# Altium integrated library NEC Microcontroller 4-Bit.IntLib: 43 symbols
Pins are listed as number, name and electrical type; pins without a type are passive.

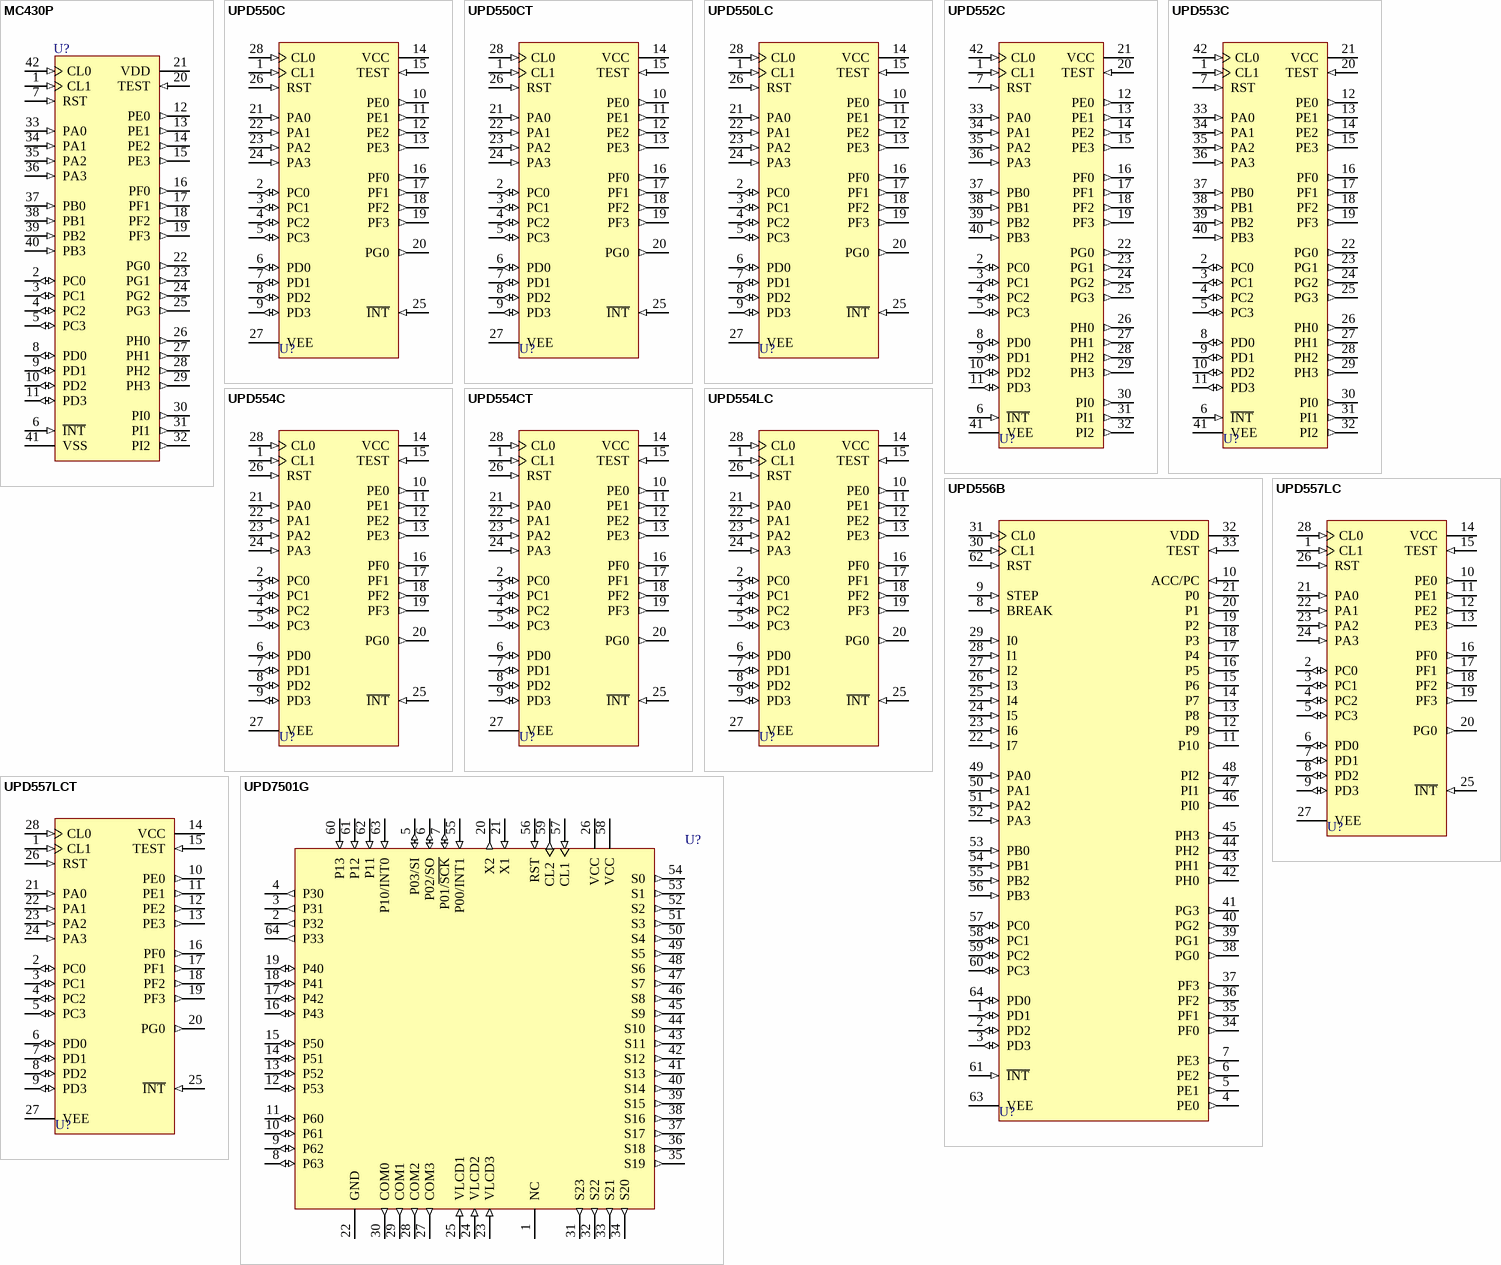
[diagram p0: symbols MC430P to UPD7501G]

## MC430P
designator U?
Hybrid UV EPROM 4-Bit Single-Chip Microcomputer; Note: Connect TEST pin to VCC.; Published: 8-Jun-2000; LatestRevisionDate: 17-Jul-2002; LatestRevisionNote: Re-released for DXP Platform.; DatasheetVersion: 1984; PackageVersion: 1984; PackageReference: CerDIP42; Publisher: Altium Limited; PackageDescription: DIP; 42 Rectangular Pins; Row Space 15.24 mm; Pitch 2.54 mm; ComponentLink1Description: Manufacturer Link; ComponentLink1URL: http://www.necel.com/
footprint CerDIP42 (DIP; 42 Rectangular Pins; Row Space 15.24 mm; Pitch 2.54 mm)
pins: 1 CL1 (in), 2 PC0 (io), 3 PC1 (io), 4 PC2 (io), 5 PC3 (io), 6 ~{INT} (in), 7 RST (in), 8 PD0 (io), 9 PD1 (io), 10 PD2 (io), 11 PD3 (io), 12 PE0 (out), 13 PE1 (out), 14 PE2 (out), 15 PE3 (out), 16 PF0 (out), 17 PF1 (out), 18 PF2 (out), 19 PF3 (out), 20 TEST (in), 21 VDD (power), 22 PG0 (out), 23 PG1 (out), 24 PG2 (out), 25 PG3 (out), 26 PH0 (out), 27 PH1 (out), 28 PH2 (out), 29 PH3 (out), 30 PI0 (out), 31 PI1 (out), 32 PI2 (out), 33 PA0 (in), 34 PA1 (in), 35 PA2 (in), 36 PA3 (in), 37 PB0 (in), 38 PB1 (in), 39 PB2 (in), 40 PB3 (in), 41 VSS (power), 42 CL0 (in)

## UPD550C
designator U?
4-Bit Single-Chip Microcomputer with Vacuum Fluorescent Display Drive Capability; Note: Connect TEST pin to VCC.; Published: 8-Jun-2000; LatestRevisionDate: 17-Jul-2002; LatestRevisionNote: Re-released for DXP Platform.; DatasheetVersion: 1984; PackageVersion: 1984; PackageReference: PDIP28D; Publisher: Altium Limited; PackageDescription: DIP; 28 Leads; Row Spacing 15.24 mm; Pitch 2.54 mm; ComponentLink1Description: Manufacturer Link; ComponentLink1URL: http://www.necel.com/
footprint PDIP28D (DIP; 28 Leads; Row Spacing 15.24 mm; Pitch 2.54 mm)
pins: 1 CL1 (in), 2 PC0 (io), 3 PC1 (io), 4 PC2 (io), 5 PC3 (io), 6 PD0 (io), 7 PD1 (io), 8 PD2 (io), 9 PD3 (io), 10 PE0 (out), 11 PE1 (out), 12 PE2 (out), 13 PE3 (out), 14 VCC (power), 15 TEST (in), 16 PF0 (out), 17 PF1 (out), 18 PF2 (out), 19 PF3 (out), 20 PG0 (out), 21 PA0 (in), 22 PA1 (in), 23 PA2 (in), 24 PA3 (in), 25 ~{INT} (in), 26 RST (in), 27 VEE (power), 28 CL0 (in)

## UPD550CT
designator U?
4-Bit Single-Chip Microcomputer with Vacuum Fluorescent Display Drive Capability; Note: Connect TEST pin to VCC.; Published: 8-Jun-2000; LatestRevisionDate: 17-Jul-2002; LatestRevisionNote: Re-released for DXP Platform.; DatasheetVersion: 1984; PackageVersion: 1984; PackageReference: PSDIP28; Publisher: Altium Limited; PackageDescription: DIP; 28 Leads; Row Spacing 15.24 mm; Pitch 1.778 mm; ComponentLink1Description: Manufacturer Link; ComponentLink1URL: http://www.necel.com/
footprint PSDIP28 (DIP; 28 Leads; Row Spacing 15.24 mm; Pitch 1.778 mm)
pins: 1 CL1 (in), 2 PC0 (io), 3 PC1 (io), 4 PC2 (io), 5 PC3 (io), 6 PD0 (io), 7 PD1 (io), 8 PD2 (io), 9 PD3 (io), 10 PE0 (out), 11 PE1 (out), 12 PE2 (out), 13 PE3 (out), 14 VCC (power), 15 TEST (in), 16 PF0 (out), 17 PF1 (out), 18 PF2 (out), 19 PF3 (out), 20 PG0 (out), 21 PA0 (in), 22 PA1 (in), 23 PA2 (in), 24 PA3 (in), 25 ~{INT} (in), 26 RST (in), 27 VEE (power), 28 CL0 (in)

## UPD550LC
designator U?
4-Bit Single-Chip Microcomputer with Vacuum Fluorescent Display Drive Capability; Note: Connect TEST pin to VCC.; Published: 8-Jun-2000; LatestRevisionDate: 17-Jul-2002; LatestRevisionNote: Re-released for DXP Platform.; DatasheetVersion: 1984; PackageVersion: 1984; PackageReference: PDIP28D; Publisher: Altium Limited; PackageDescription: DIP; 28 Leads; Row Spacing 15.24 mm; Pitch 2.54 mm; ComponentLink1Description: Manufacturer Link; ComponentLink1URL: http://www.necel.com/
footprint PDIP28D (DIP; 28 Leads; Row Spacing 15.24 mm; Pitch 2.54 mm)
pins: 1 CL1 (in), 2 PC0 (io), 3 PC1 (io), 4 PC2 (io), 5 PC3 (io), 6 PD0 (io), 7 PD1 (io), 8 PD2 (io), 9 PD3 (io), 10 PE0 (out), 11 PE1 (out), 12 PE2 (out), 13 PE3 (out), 14 VCC (power), 15 TEST (in), 16 PF0 (out), 17 PF1 (out), 18 PF2 (out), 19 PF3 (out), 20 PG0 (out), 21 PA0 (in), 22 PA1 (in), 23 PA2 (in), 24 PA3 (in), 25 ~{INT} (in), 26 RST (in), 27 VEE (power), 28 CL0 (in)

## UPD552C
designator U?
4-Bit Single-Chip Microcomputer with Vacuum Fluorescent Display Drive Capability; Note: Connect TEST pin to VCC.; Published: 8-Jun-2000; LatestRevisionDate: 17-Jul-2002; LatestRevisionNote: Re-released for DXP Platform.; DatasheetVersion: 1984; PackageVersion: 1984; PackageReference: PDIP42; Publisher: Altium Limited; PackageDescription: DIP; 42 Leads; Row Spacing 15.24 mm; Pitch 2.54 mm; ComponentLink1Description: Manufacturer Link; ComponentLink1URL: http://www.necel.com/
footprint PDIP42 (DIP; 42 Leads; Row Spacing 15.24 mm; Pitch 2.54 mm)
pins: 1 CL1 (in), 2 PC0 (io), 3 PC1 (io), 4 PC2 (io), 5 PC3 (io), 6 ~{INT} (in), 7 RST (in), 8 PD0 (io), 9 PD1 (io), 10 PD2 (io), 11 PD3 (io), 12 PE0 (out), 13 PE1 (out), 14 PE2 (out), 15 PE3 (out), 16 PF0 (out), 17 PF1 (out), 18 PF2 (out), 19 PF3 (out), 20 TEST (in), 21 VCC (power), 22 PG0 (out), 23 PG1 (out), 24 PG2 (out), 25 PG3 (out), 26 PH0 (out), 27 PH1 (out), 28 PH2 (out), 29 PH3 (out), 30 PI0 (out), 31 PI1 (out), 32 PI2 (out), 33 PA0 (in), 34 PA1 (in), 35 PA2 (in), 36 PA3 (in), 37 PB0 (in), 38 PB1 (in), 39 PB2 (in), 40 PB3 (in), 41 VEE (power), 42 CL0 (in)

## UPD553C
designator U?
4-Bit Single-Chip Microcomputer with Vacuum Fluorescent Display Drive Capability; Note: Connect TEST pin to VCC.; Published: 8-Jun-2000; LatestRevisionDate: 17-Jul-2002; LatestRevisionNote: Re-released for DXP Platform.; DatasheetVersion: 1984; PackageVersion: 1984; PackageReference: PDIP42; Publisher: Altium Limited; PackageDescription: DIP; 42 Leads; Row Spacing 15.24 mm; Pitch 2.54 mm; ComponentLink1Description: Manufacturer Link; ComponentLink1URL: http://www.necel.com/
footprint PDIP42 (DIP; 42 Leads; Row Spacing 15.24 mm; Pitch 2.54 mm)
pins: 1 CL1 (in), 2 PC0 (io), 3 PC1 (io), 4 PC2 (io), 5 PC3 (io), 6 ~{INT} (in), 7 RST (in), 8 PD0 (io), 9 PD1 (io), 10 PD2 (io), 11 PD3 (io), 12 PE0 (out), 13 PE1 (out), 14 PE2 (out), 15 PE3 (out), 16 PF0 (out), 17 PF1 (out), 18 PF2 (out), 19 PF3 (out), 20 TEST (in), 21 VCC (power), 22 PG0 (out), 23 PG1 (out), 24 PG2 (out), 25 PG3 (out), 26 PH0 (out), 27 PH1 (out), 28 PH2 (out), 29 PH3 (out), 30 PI0 (out), 31 PI1 (out), 32 PI2 (out), 33 PA0 (in), 34 PA1 (in), 35 PA2 (in), 36 PA3 (in), 37 PB0 (in), 38 PB1 (in), 39 PB2 (in), 40 PB3 (in), 41 VEE (power), 42 CL0 (in)

## UPD554C
designator U?
4-Bit Single-Chip Microcomputer with Vacuum Fluorescent Display Drive Capability; Note: Connect TEST pin to VCC.; Published: 8-Jun-2000; LatestRevisionDate: 17-Jul-2002; LatestRevisionNote: Re-released for DXP Platform.; DatasheetVersion: 1984; PackageVersion: 1984; PackageReference: PDIP28D; Publisher: Altium Limited; PackageDescription: DIP; 28 Leads; Row Spacing 15.24 mm; Pitch 2.54 mm; ComponentLink1Description: Manufacturer Link; ComponentLink1URL: http://www.necel.com/
footprint PDIP28D (DIP; 28 Leads; Row Spacing 15.24 mm; Pitch 2.54 mm)
pins: 1 CL1 (in), 2 PC0 (io), 3 PC1 (io), 4 PC2 (io), 5 PC3 (io), 6 PD0 (io), 7 PD1 (io), 8 PD2 (io), 9 PD3 (io), 10 PE0 (out), 11 PE1 (out), 12 PE2 (out), 13 PE3 (out), 14 VCC (power), 15 TEST (in), 16 PF0 (out), 17 PF1 (out), 18 PF2 (out), 19 PF3 (out), 20 PG0 (out), 21 PA0 (in), 22 PA1 (in), 23 PA2 (in), 24 PA3 (in), 25 ~{INT} (in), 26 RST (in), 27 VEE (power), 28 CL0 (in)

## UPD554CT
designator U?
4-Bit Single-Chip Microcomputer with Vacuum Fluorescent Display Drive Capability; Note: Connect TEST pin to VCC.; Published: 8-Jun-2000; LatestRevisionDate: 17-Jul-2002; LatestRevisionNote: Re-released for DXP Platform.; DatasheetVersion: 1984; PackageVersion: 1984; PackageReference: PSDIP28; Publisher: Altium Limited; PackageDescription: DIP; 28 Leads; Row Spacing 15.24 mm; Pitch 1.778 mm; ComponentLink1Description: Manufacturer Link; ComponentLink1URL: http://www.necel.com/
footprint PSDIP28 (DIP; 28 Leads; Row Spacing 15.24 mm; Pitch 1.778 mm)
pins: 1 CL1 (in), 2 PC0 (io), 3 PC1 (io), 4 PC2 (io), 5 PC3 (io), 6 PD0 (io), 7 PD1 (io), 8 PD2 (io), 9 PD3 (io), 10 PE0 (out), 11 PE1 (out), 12 PE2 (out), 13 PE3 (out), 14 VCC (power), 15 TEST (in), 16 PF0 (out), 17 PF1 (out), 18 PF2 (out), 19 PF3 (out), 20 PG0 (out), 21 PA0 (in), 22 PA1 (in), 23 PA2 (in), 24 PA3 (in), 25 ~{INT} (in), 26 RST (in), 27 VEE (power), 28 CL0 (in)

## UPD554LC
designator U?
4-Bit Single-Chip Microcomputer with Vacuum Fluorescent Display Drive Capability; Note: Connect TEST pin to VCC.; Published: 8-Jun-2000; LatestRevisionDate: 17-Jul-2002; LatestRevisionNote: Re-released for DXP Platform.; DatasheetVersion: 1984; PackageVersion: 1984; PackageReference: PDIP28D; Publisher: Altium Limited; PackageDescription: DIP; 28 Leads; Row Spacing 15.24 mm; Pitch 2.54 mm; ComponentLink1Description: Manufacturer Link; ComponentLink1URL: http://www.necel.com/
footprint PDIP28D (DIP; 28 Leads; Row Spacing 15.24 mm; Pitch 2.54 mm)
pins: 1 CL1 (in), 2 PC0 (io), 3 PC1 (io), 4 PC2 (io), 5 PC3 (io), 6 PD0 (io), 7 PD1 (io), 8 PD2 (io), 9 PD3 (io), 10 PE0 (out), 11 PE1 (out), 12 PE2 (out), 13 PE3 (out), 14 VCC (power), 15 TEST (in), 16 PF0 (out), 17 PF1 (out), 18 PF2 (out), 19 PF3 (out), 20 PG0 (out), 21 PA0 (in), 22 PA1 (in), 23 PA2 (in), 24 PA3 (in), 25 ~{INT} (in), 26 RST (in), 27 VEE (power), 28 CL0 (in)

## UPD556B
designator U?
uCOM-4 4-Bit Single-Chip ROM-Less Evaluation Chip; Published: 8-Jun-2000; LatestRevisionDate: 17-Jul-2002; LatestRevisionNote: Re-released for DXP Platform.; DatasheetVersion: 1984; PackageVersion: 1984; PackageReference: CQUIL64; Publisher: Altium Limited; PackageDescription: QUIP; 64 Leads, in two Staggered Rows, each of 2.54 mm pitch; ComponentLink1Description: Manufacturer Link; ComponentLink1URL: http://www.necel.com/
footprint CQUIL64 (QUIP; 64 Leads, in two Staggered Rows, each of 19.05 mm pitch)
pins: 1 PD1 (io), 2 PD2 (io), 3 PD3 (io), 4 PE0 (out), 5 PE1 (out), 6 PE2 (out), 7 PE3 (out), 8 BREAK (in), 9 STEP (in), 10 ACC/PC (in), 11 P10 (out), 12 P9 (out), 13 P8 (out), 14 P7 (out), 15 P6 (out), 16 P5 (out), 17 P4 (out), 18 P3 (out), 19 P2 (out), 20 P1 (out), 21 P0 (out), 22 I7 (in), 23 I6 (in), 24 I5 (in), 25 I4 (in), 26 I3 (in), 27 I2 (in), 28 I1 (in), 29 I0 (in), 30 CL1 (in), 31 CL0 (in), 32 VDD (power), 33 TEST (in), 34 PF0 (out), 35 PF1 (out), 36 PF2 (out), 37 PF3 (out), 38 PG0 (out), 39 PG1 (out), 40 PG2 (out), 41 PG3 (out), 42 PH0 (out), 43 PH1 (out), 44 PH2 (out), 45 PH3 (out), 46 PI0 (out), 47 PI1 (out), 48 PI2 (out), 49 PA0 (in), 50 PA1 (in), 51 PA2 (in), 52 PA3 (in), 53 PB0 (in), 54 PB1 (in), 55 PB2 (in), 56 PB3 (in), 57 PC0 (io), 58 PC1 (io), 59 PC2 (io), 60 PC3 (io), 61 ~{INT} (in), 62 RST (in), 63 VEE (power), 64 PD0 (io)

## UPD557LC
designator U?
4-Bit Single-Chip Microcomputer with Vacuum Fluorescent Display Drive Capability; Note: Connect TEST pin to VCC.; Published: 8-Jun-2000; LatestRevisionDate: 17-Jul-2002; LatestRevisionNote: Re-released for DXP Platform.; DatasheetVersion: 1984; PackageVersion: 1984; PackageReference: PDIP28D; Publisher: Altium Limited; PackageDescription: DIP; 28 Leads; Row Spacing 15.24 mm; Pitch 2.54 mm; ComponentLink1Description: Manufacturer Link; ComponentLink1URL: http://www.necel.com/
footprint PDIP28D (DIP; 28 Leads; Row Spacing 15.24 mm; Pitch 2.54 mm)
pins: 1 CL1 (in), 2 PC0 (io), 3 PC1 (io), 4 PC2 (io), 5 PC3 (io), 6 PD0 (io), 7 PD1 (io), 8 PD2 (io), 9 PD3 (io), 10 PE0 (out), 11 PE1 (out), 12 PE2 (out), 13 PE3 (out), 14 VCC (power), 15 TEST (in), 16 PF0 (out), 17 PF1 (out), 18 PF2 (out), 19 PF3 (out), 20 PG0 (out), 21 PA0 (in), 22 PA1 (in), 23 PA2 (in), 24 PA3 (in), 25 ~{INT} (in), 26 RST (in), 27 VEE (power), 28 CL0 (in)

## UPD557LCT
designator U?
4-Bit Single-Chip Microcomputer with Vacuum Fluorescent Display Drive Capability; Note: Connect TEST pin to VCC.; Published: 8-Jun-2000; LatestRevisionDate: 17-Jul-2002; LatestRevisionNote: Re-released for DXP Platform.; DatasheetVersion: 1984; PackageVersion: 1984; PackageReference: PSDIP28; Publisher: Altium Limited; PackageDescription: DIP; 28 Leads; Row Spacing 15.24 mm; Pitch 1.778 mm; ComponentLink1Description: Manufacturer Link; ComponentLink1URL: http://www.necel.com/
footprint PSDIP28 (DIP; 28 Leads; Row Spacing 15.24 mm; Pitch 1.778 mm)
pins: 1 CL1 (in), 2 PC0 (io), 3 PC1 (io), 4 PC2 (io), 5 PC3 (io), 6 PD0 (io), 7 PD1 (io), 8 PD2 (io), 9 PD3 (io), 10 PE0 (out), 11 PE1 (out), 12 PE2 (out), 13 PE3 (out), 14 VCC (power), 15 TEST (in), 16 PF0 (out), 17 PF1 (out), 18 PF2 (out), 19 PF3 (out), 20 PG0 (out), 21 PA0 (in), 22 PA1 (in), 23 PA2 (in), 24 PA3 (in), 25 ~{INT} (in), 26 RST (in), 27 VEE (power), 28 CL0 (in)

## UPD7501G
designator U?
CMOS 4-Bit Single-Chip Microcomputer with LCD Controller/Driver; Note: Pin(s) 1 "No Connection".; Published: 8-Jun-2000; LatestRevisionDate: 13-Apr-2006; LatestRevisionNote: IPC-7351 Footprint Added.; DatasheetVersion: 1984; PackageVersion: 1983/1984; PackageReference: PMF64; Publisher: Altium Limited; PackageDescription: 64-Pin Quad Flat Pack Rectangular 1 mm Pitch; ComponentLink1Description: Manufacturer Link; ComponentLink1URL: http://www.necel.com/
footprint PMF64_N (QFP, 64-Leads, Body 20x14mm, Pitch 1mm, IPC Medium Density)
footprint PMF64_L (QFP, 64-Leads, Body 20x14mm, Pitch 1mm, IPC High Density)
footprint PMF64_M (QFP, 64-Leads, Body 20x14mm, Pitch 1mm, IPC Low Density)
pins: 1 NC, 2 P32 (out), 3 P31 (out), 4 P30 (out), 5 P03/SI (io), 6 P02/SO (io), 7 P01/~{SCK} (io), 8 P63 (io), 9 P62 (io), 10 P61 (io), 11 P60 (io), 12 P53 (io), 13 P52 (io), 14 P51 (io), 15 P50 (io), 16 P43 (io), 17 P42 (io), 18 P41 (io), 19 P40 (io), 20 X2 (out), 21 X1 (in), 22 GND (power), 23 VLCD3 (in), 24 VLCD2 (in), 25 VLCD1 (in), 26 VCC (power), 27 COM3 (out), 28 COM2 (out), 29 COM1 (out), 30 COM0 (out), 31 S23 (out), 32 S22 (out), 33 S21 (out), 34 S20 (out), 35 S19 (out), 36 S18 (out), 37 S17 (out), 38 S16 (out), 39 S15 (out), 40 S14 (out), 41 S13 (out), 42 S12 (out), 43 S11 (out), 44 S10 (out), 45 S9 (out), 46 S8 (out), 47 S7 (out), 48 S6 (out), 49 S5 (out), 50 S4 (out), 51 S3 (out), 52 S2 (out), 53 S1 (out), 54 S0 (out), 55 P00/INT1 (in), 56 RST (in), 57 CL1 (in), 58 VCC (power), 59 CL2 (out), 60 P13 (in), 61 P12 (in), 62 P11 (in), 63 P10/INT0 (in), 64 P33 (out)

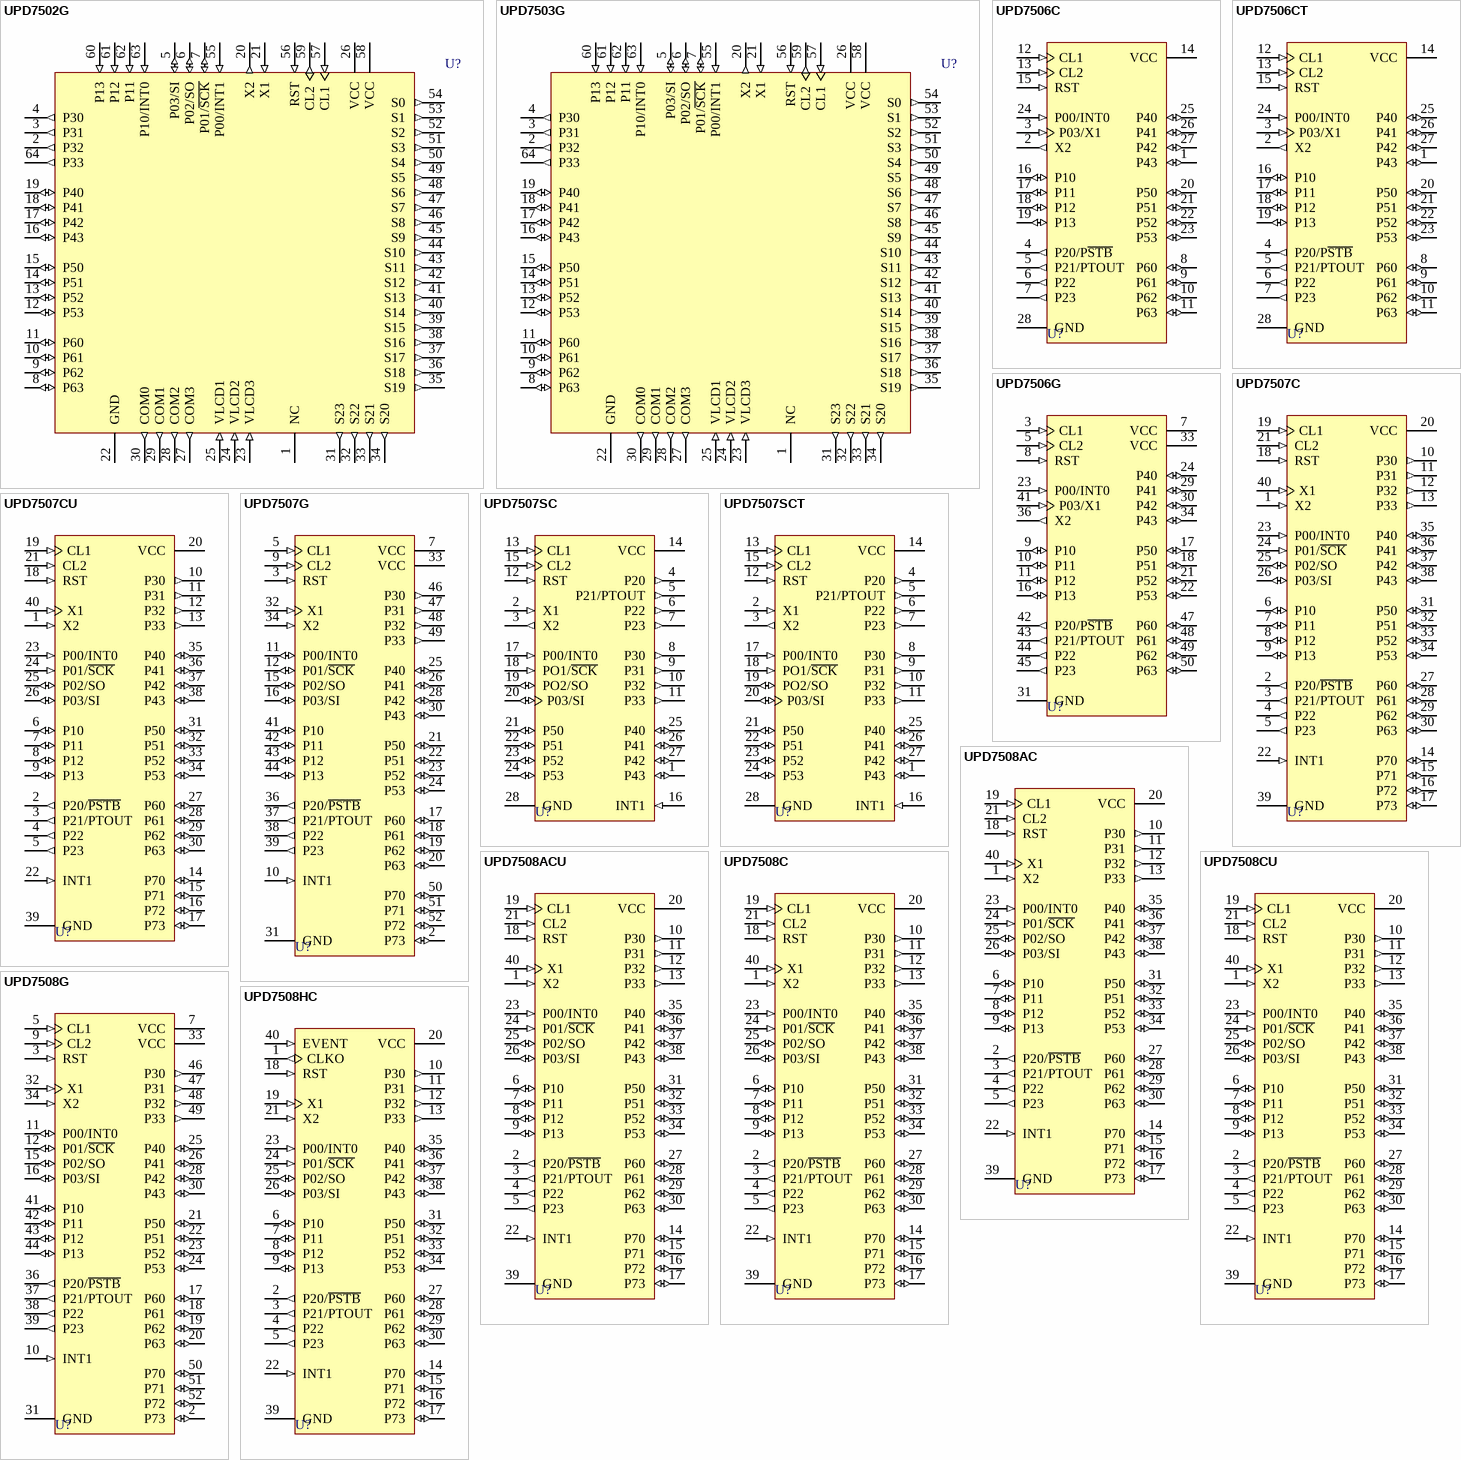
[diagram p1: symbols UPD7502G to UPD7508HC]

## UPD7502G
designator U?
CMOS 4-Bit Single-Chip Microcomputer with LCD Controller/Driver; Note: Pin(s) 1 "No Connection".; Published: 8-Jun-2000; LatestRevisionDate: 13-Apr-2006; LatestRevisionNote: IPC-7351 Footprint Added.; DatasheetVersion: 1984; PackageVersion: 1983/1984; PackageReference: PMF64; Publisher: Altium Limited; PackageDescription: 64-Pin Quad Flat Pack Rectangular 1 mm Pitch; ComponentLink1Description: Manufacturer Link; ComponentLink1URL: http://www.necel.com/
footprint PMF64_N (QFP, 64-Leads, Body 20x14mm, Pitch 1mm, IPC Medium Density)
footprint PMF64_L (QFP, 64-Leads, Body 20x14mm, Pitch 1mm, IPC High Density)
footprint PMF64_M (QFP, 64-Leads, Body 20x14mm, Pitch 1mm, IPC Low Density)
pins: 1 NC, 2 P32 (out), 3 P31 (out), 4 P30 (out), 5 P03/SI (io), 6 P02/SO (io), 7 P01/~{SCK} (io), 8 P63 (io), 9 P62 (io), 10 P61 (io), 11 P60 (io), 12 P53 (io), 13 P52 (io), 14 P51 (io), 15 P50 (io), 16 P43 (io), 17 P42 (io), 18 P41 (io), 19 P40 (io), 20 X2 (out), 21 X1 (in), 22 GND (power), 23 VLCD3 (in), 24 VLCD2 (in), 25 VLCD1 (in), 26 VCC (power), 27 COM3 (out), 28 COM2 (out), 29 COM1 (out), 30 COM0 (out), 31 S23 (out), 32 S22 (out), 33 S21 (out), 34 S20 (out), 35 S19 (out), 36 S18 (out), 37 S17 (out), 38 S16 (out), 39 S15 (out), 40 S14 (out), 41 S13 (out), 42 S12 (out), 43 S11 (out), 44 S10 (out), 45 S9 (out), 46 S8 (out), 47 S7 (out), 48 S6 (out), 49 S5 (out), 50 S4 (out), 51 S3 (out), 52 S2 (out), 53 S1 (out), 54 S0 (out), 55 P00/INT1 (in), 56 RST (in), 57 CL1 (in), 58 VCC (power), 59 CL2 (out), 60 P13 (in), 61 P12 (in), 62 P11 (in), 63 P10/INT0 (in), 64 P33 (out)

## UPD7503G
designator U?
CMOS 4-Bit Single-Chip Microcomputer with LCD Controller/Driver; Note: Pin(s) 1 "No Connection".; Published: 8-Jun-2000; LatestRevisionDate: 13-Apr-2006; LatestRevisionNote: IPC-7351 Footprint Added.; DatasheetVersion: 1984; PackageVersion: 1983/1984; PackageReference: PMF64; Publisher: Altium Limited; PackageDescription: 64-Pin Quad Flat Pack Rectangular 1 mm Pitch; ComponentLink1Description: Manufacturer Link; ComponentLink1URL: http://www.necel.com/
footprint PMF64_N (QFP, 64-Leads, Body 20x14mm, Pitch 1mm, IPC Medium Density)
footprint PMF64_L (QFP, 64-Leads, Body 20x14mm, Pitch 1mm, IPC High Density)
footprint PMF64_M (QFP, 64-Leads, Body 20x14mm, Pitch 1mm, IPC Low Density)
pins: 1 NC, 2 P32 (out), 3 P31 (out), 4 P30 (out), 5 P03/SI (io), 6 P02/SO (io), 7 P01/~{SCK} (io), 8 P63 (io), 9 P62 (io), 10 P61 (io), 11 P60 (io), 12 P53 (io), 13 P52 (io), 14 P51 (io), 15 P50 (io), 16 P43 (io), 17 P42 (io), 18 P41 (io), 19 P40 (io), 20 X2 (out), 21 X1 (in), 22 GND (power), 23 VLCD3 (in), 24 VLCD2 (in), 25 VLCD1 (in), 26 VCC (power), 27 COM3 (out), 28 COM2 (out), 29 COM1 (out), 30 COM0 (out), 31 S23 (out), 32 S22 (out), 33 S21 (out), 34 S20 (out), 35 S19 (out), 36 S18 (out), 37 S17 (out), 38 S16 (out), 39 S15 (out), 40 S14 (out), 41 S13 (out), 42 S12 (out), 43 S11 (out), 44 S10 (out), 45 S9 (out), 46 S8 (out), 47 S7 (out), 48 S6 (out), 49 S5 (out), 50 S4 (out), 51 S3 (out), 52 S2 (out), 53 S1 (out), 54 S0 (out), 55 P00/INT1 (in), 56 RST (in), 57 CL1 (in), 58 VCC (power), 59 CL2 (out), 60 P13 (in), 61 P12 (in), 62 P11 (in), 63 P10/INT0 (in), 64 P33 (out)

## UPD7506C
designator U?
CMOS 4-Bit Single-Chip Microcomputer; Published: 8-Jun-2000; LatestRevisionDate: 17-Jul-2002; LatestRevisionNote: Re-released for DXP Platform.; DatasheetVersion: 1984; PackageVersion: 1984; PackageReference: PDIP28D; Publisher: Altium Limited; PackageDescription: DIP; 28 Leads; Row Spacing 15.24 mm; Pitch 2.54 mm; ComponentLink1Description: Manufacturer Link; ComponentLink1URL: http://www.necel.com/
footprint PDIP28D (DIP; 28 Leads; Row Spacing 15.24 mm; Pitch 2.54 mm)
pins: 1 P43 (io), 2 X2 (out), 3 P03/X1 (in), 4 P20/P~{STB} (out), 5 P21/PTOUT (out), 6 P22 (out), 7 P23 (out), 8 P60 (io), 9 P61 (io), 10 P62 (io), 11 P63 (io), 12 CL1 (in), 13 CL2 (in), 14 VCC (power), 15 RST (in), 16 P10 (io), 17 P11 (io), 18 P12 (io), 19 P13 (io), 20 P50 (io), 21 P51 (io), 22 P52 (io), 23 P53 (io), 24 P00/INT0 (in), 25 P40 (io), 26 P41 (io), 27 P42 (io), 28 GND (power)

## UPD7506CT
designator U?
CMOS 4-Bit Single-Chip Microcomputer; Published: 8-Jun-2000; LatestRevisionDate: 17-Jul-2002; LatestRevisionNote: Re-released for DXP Platform.; DatasheetVersion: 1984; PackageVersion: 1984; PackageReference: PSDIP28; Publisher: Altium Limited; PackageDescription: DIP; 28 Leads; Row Spacing 15.24 mm; Pitch 1.778 mm; ComponentLink1Description: Manufacturer Link; ComponentLink1URL: http://www.necel.com/
footprint PSDIP28 (DIP; 28 Leads; Row Spacing 15.24 mm; Pitch 1.778 mm)
pins: 1 P43 (io), 2 X2 (out), 3 P03/X1 (in), 4 P20/P~{STB} (out), 5 P21/PTOUT (out), 6 P22 (out), 7 P23 (out), 8 P60 (io), 9 P61 (io), 10 P62 (io), 11 P63 (io), 12 CL1 (in), 13 CL2 (in), 14 VCC (power), 15 RST (in), 16 P10 (io), 17 P11 (io), 18 P12 (io), 19 P13 (io), 20 P50 (io), 21 P51 (io), 22 P52 (io), 23 P53 (io), 24 P00/INT0 (in), 25 P40 (io), 26 P41 (io), 27 P42 (io), 28 GND (power)

## UPD7506G
designator U?
CMOS 4-Bit Single-Chip Microcomputer; Note: Pin(s) 1,2,4,6,12-15,19,20,25-28,32,35,37-40,46,51 and 52 are  "No Connection" pins and not drawn.; Published: 8-Jun-2000; LatestRevisionDate: 13-Apr-2006; LatestRevisionNote: IPC-7351 Footprint Added.; DatasheetVersion: 1984; PackageReference: PMF52; Publisher: Altium Limited; PackageDescription: 52-Pin Quad Flat Pack 1 mm Pitch; ComponentLink1Description: Manufacturer Link; ComponentLink1URL: http://www.necel.com/
footprint PMF52_N (QFP, 52-Leads, Body 14x14mm, Pitch 1mm, IPC Medium Density)
footprint PMF52_L (QFP, 52-Leads, Body 14x14mm, Pitch 1mm, IPC High Density)
footprint PMF52_M (QFP, 52-Leads, Body 14x14mm, Pitch 1mm, IPC Low Density)
pins: 3 CL1 (in), 5 CL2 (in), 7 VCC (power), 8 RST (in), 9 P10 (io), 10 P11 (io), 11 P12 (io), 16 P13 (io), 17 P50 (io), 18 P51 (io), 21 P52 (io), 22 P53 (io), 23 P00/INT0 (in), 24 P40 (io), 29 P41 (io), 30 P42 (io), 31 GND (power), 33 VCC (power), 34 P43 (io), 36 X2 (out), 41 P03/X1 (in), 42 P20/P~{STB} (out), 43 P21/PTOUT (out), 44 P22 (out), 45 P23 (out), 47 P60 (io), 48 P61 (io), 49 P62 (io), 50 P63 (io)

## UPD7507C
designator U?
CMOS 4-Bit Single-Chip Microcomputer; Published: 8-Jun-2000; LatestRevisionDate: 17-Jul-2002; LatestRevisionNote: Re-released for DXP Platform.; DatasheetVersion: 1984; PackageVersion: 1984; PackageReference: PDIP40; Publisher: Altium Limited; PackageDescription: DIP; 40 Leads; Row Spacing 15.24 mm; Pitch 2.54 mm; ComponentLink1Description: Manufacturer Link; ComponentLink1URL: http://www.necel.com/
footprint PDIP40 (DIP; 40 Leads; Row Spacing 15.24 mm; Pitch 2.54 mm)
pins: 1 X2 (in), 2 P20/~{PSTB} (out), 3 P21/PTOUT (out), 4 P22 (out), 5 P23 (out), 6 P10 (io), 7 P11 (io), 8 P12 (io), 9 P13 (io), 10 P30 (out), 11 P31 (out), 12 P32 (out), 13 P33 (out), 14 P70 (io), 15 P71 (io), 16 P72 (io), 17 P73 (io), 18 RST (in), 19 CL1 (in), 20 VCC (power), 21 CL2 (in), 22 INT1 (in), 23 P00/INT0 (in), 24 P01/~{SCK} (in), 25 P02/SO (io), 26 P03/SI (io), 27 P60 (io), 28 P61 (io), 29 P62 (io), 30 P63 (io), 31 P50 (io), 32 P51 (io), 33 P52 (io), 34 P53 (io), 35 P40 (io), 36 P41 (io), 37 P42 (io), 38 P43 (io), 39 GND (power), 40 X1 (in)

## UPD7507CU
designator U?
CMOS 4-Bit Single-Chip Microcomputer; Published: 8-Jun-2000; LatestRevisionDate: 17-Jul-2002; LatestRevisionNote: Re-released for DXP Platform.; DatasheetVersion: 1984; PackageVersion: 1984; PackageReference: PSDIP40; Publisher: Altium Limited; PackageDescription: DIP; 40 Leads; Row Spacing 15.24 mm; Pitch 1.778 mm; ComponentLink1Description: Manufacturer Link; ComponentLink1URL: http://www.necel.com/
footprint PSDIP40 (DIP; 40 Leads; Row Spacing 15.24 mm; Pitch 1.778 mm)
pins: 1 X2 (in), 2 P20/~{PSTB} (out), 3 P21/PTOUT (out), 4 P22 (out), 5 P23 (out), 6 P10 (io), 7 P11 (io), 8 P12 (io), 9 P13 (io), 10 P30 (out), 11 P31 (out), 12 P32 (out), 13 P33 (out), 14 P70 (io), 15 P71 (io), 16 P72 (io), 17 P73 (io), 18 RST (in), 19 CL1 (in), 20 VCC (power), 21 CL2 (in), 22 INT1 (in), 23 P00/INT0 (in), 24 P01/~{SCK} (in), 25 P02/SO (io), 26 P03/SI (io), 27 P60 (io), 28 P61 (io), 29 P62 (io), 30 P63 (io), 31 P50 (io), 32 P51 (io), 33 P52 (io), 34 P53 (io), 35 P40 (io), 36 P41 (io), 37 P42 (io), 38 P43 (io), 39 GND (power), 40 X1 (in)

## UPD7507G
designator U?
CMOS 4-Bit Single-Chip Microcomputer; Note: Pins 1, 4, 6, 8, 13, 14, 27, 29, 35, 40 and 45 are "No Connection"  pins and not drawn.; Published: 8-Jun-2000; LatestRevisionDate: 13-Apr-2006; LatestRevisionNote: IPC-7351 Footprint Added.; DatasheetVersion: 1984; PackageReference: PMF52; Publisher: Altium Limited; PackageDescription: 52-Pin Quad Flat Pack 1 mm Pitch; ComponentLink1Description: Manufacturer Link; ComponentLink1URL: http://www.necel.com/
footprint PMF52_N (QFP, 52-Leads, Body 14x14mm, Pitch 1mm, IPC Medium Density)
footprint PMF52_L (QFP, 52-Leads, Body 14x14mm, Pitch 1mm, IPC High Density)
footprint PMF52_M (QFP, 52-Leads, Body 14x14mm, Pitch 1mm, IPC Low Density)
pins: 2 P73 (io), 3 RST (in), 5 CL1 (in), 7 VCC (power), 9 CL2 (in), 10 INT1 (in), 11 P00/INT0 (io), 12 P01/~{SCK} (io), 15 P02/SO (io), 16 P03/SI (io), 17 P60 (io), 18 P61 (io), 19 P62 (io), 20 P63 (io), 21 P50 (io), 22 P51 (io), 23 P52 (io), 24 P53 (io), 25 P40 (io), 26 P41 (io), 28 P42 (io), 30 P43 (io), 31 GND (power), 32 X1 (in), 33 VCC (power), 34 X2 (in), 36 P20/~{PSTB} (out), 37 P21/PTOUT (out), 38 P22 (out), 39 P23 (out), 41 P10 (io), 42 P11 (io), 43 P12 (io), 44 P13 (io), 46 P30 (out), 47 P31 (out), 48 P32 (out), 49 P33 (out), 50 P70 (io), 51 P71 (io), 52 P72 (io)

## UPD7507SC
designator U?
CMOS 4-Bit Single-Chip Microcomputer; Published: 8-Jun-2000; LatestRevisionDate: 17-Jul-2002; LatestRevisionNote: Re-released for DXP Platform.; DatasheetVersion: 1984; PackageVersion: 1984; PackageReference: PDIP28D; Publisher: Altium Limited; PackageDescription: DIP; 28 Leads; Row Spacing 15.24 mm; Pitch 2.54 mm; ComponentLink1Description: Manufacturer Link; ComponentLink1URL: http://www.necel.com/
footprint PDIP28D (DIP; 28 Leads; Row Spacing 15.24 mm; Pitch 2.54 mm)
pins: 1 P43 (io), 2 X1 (in), 3 X2 (out), 4 P20 (out), 5 P21/PTOUT (out), 6 P22 (out), 7 P23 (out), 8 P30 (out), 9 P31 (out), 10 P32 (out), 11 P33 (out), 12 RST (in), 13 CL1 (in), 14 VCC (power), 15 CL2 (in), 16 INT1 (in), 17 P00/INT0 (in), 18 PO1/~{SCK} (in), 19 PO2/SO (io), 20 P03/SI (io), 21 P50 (io), 22 P51 (io), 23 P52 (io), 24 P53 (io), 25 P40 (io), 26 P41 (io), 27 P42 (io), 28 GND (power)

## UPD7507SCT
designator U?
CMOS 4-Bit Single-Chip Microcomputer; Published: 8-Jun-2000; LatestRevisionDate: 17-Jul-2002; LatestRevisionNote: Re-released for DXP Platform.; DatasheetVersion: 1984; PackageVersion: 1984; PackageReference: PSDIP28; Publisher: Altium Limited; PackageDescription: DIP; 28 Leads; Row Spacing 15.24 mm; Pitch 1.778 mm; ComponentLink1Description: Manufacturer Link; ComponentLink1URL: http://www.necel.com/
footprint PSDIP28 (DIP; 28 Leads; Row Spacing 15.24 mm; Pitch 1.778 mm)
pins: 1 P43 (io), 2 X1 (in), 3 X2 (out), 4 P20 (out), 5 P21/PTOUT (out), 6 P22 (out), 7 P23 (out), 8 P30 (out), 9 P31 (out), 10 P32 (out), 11 P33 (out), 12 RST (in), 13 CL1 (in), 14 VCC (power), 15 CL2 (in), 16 INT1 (in), 17 P00/INT0 (in), 18 PO1/~{SCK} (in), 19 PO2/SO (io), 20 P03/SI (io), 21 P50 (io), 22 P51 (io), 23 P52 (io), 24 P53 (io), 25 P40 (io), 26 P41 (io), 27 P42 (io), 28 GND (power)

## UPD7508AC
designator U?
CMOS 4-Bit Single-Chip Microcomputer with Vacuum Fluorescent Display Drive Capability; Published: 8-Jun-2000; LatestRevisionDate: 17-Jul-2002; LatestRevisionNote: Re-released for DXP Platform.; DatasheetVersion: 1984; PackageVersion: 1984; PackageReference: PDIP40; Publisher: Altium Limited; PackageDescription: DIP; 40 Leads; Row Spacing 15.24 mm; Pitch 2.54 mm; ComponentLink1Description: Manufacturer Link; ComponentLink1URL: http://www.necel.com/
footprint PDIP40 (DIP; 40 Leads; Row Spacing 15.24 mm; Pitch 2.54 mm)
pins: 1 X2 (in), 2 P20/~{PSTB} (out), 3 P21/PTOUT (out), 4 P22 (out), 5 P23 (out), 6 P10 (io), 7 P11 (io), 8 P12 (io), 9 P13 (io), 10 P30 (out), 11 P31 (out), 12 P32 (out), 13 P33 (out), 14 P70 (io), 15 P71 (io), 16 P72 (io), 17 P73 (io), 18 RST (in), 19 CL1 (in), 20 VCC (power), 21 CL2 (in), 22 INT1 (in), 23 P00/INT0 (in), 24 P01/~{SCK} (in), 25 P02/SO (io), 26 P03/SI (io), 27 P60 (io), 28 P61 (io), 29 P62 (io), 30 P63 (io), 31 P50 (io), 32 P51 (io), 33 P52 (io), 34 P53 (io), 35 P40 (io), 36 P41 (io), 37 P42 (io), 38 P43 (io), 39 GND (power), 40 X1 (in)

## UPD7508ACU
designator U?
CMOS 4-Bit Single-Chip Microcomputer with Vacuum Fluorescent Display Drive Capability; Published: 8-Jun-2000; LatestRevisionDate: 17-Jul-2002; LatestRevisionNote: Re-released for DXP Platform.; DatasheetVersion: 1984; PackageVersion: 1984; PackageReference: PSDIP40; Publisher: Altium Limited; PackageDescription: DIP; 40 Leads; Row Spacing 15.24 mm; Pitch 1.778 mm; ComponentLink1Description: Manufacturer Link; ComponentLink1URL: http://www.necel.com/
footprint PSDIP40 (DIP; 40 Leads; Row Spacing 15.24 mm; Pitch 1.778 mm)
pins: 1 X2 (in), 2 P20/~{PSTB} (out), 3 P21/PTOUT (out), 4 P22 (out), 5 P23 (out), 6 P10 (io), 7 P11 (io), 8 P12 (io), 9 P13 (io), 10 P30 (out), 11 P31 (out), 12 P32 (out), 13 P33 (out), 14 P70 (io), 15 P71 (io), 16 P72 (io), 17 P73 (io), 18 RST (in), 19 CL1 (in), 20 VCC (power), 21 CL2 (in), 22 INT1 (in), 23 P00/INT0 (in), 24 P01/~{SCK} (in), 25 P02/SO (io), 26 P03/SI (io), 27 P60 (io), 28 P61 (io), 29 P62 (io), 30 P63 (io), 31 P50 (io), 32 P51 (io), 33 P52 (io), 34 P53 (io), 35 P40 (io), 36 P41 (io), 37 P42 (io), 38 P43 (io), 39 GND (power), 40 X1 (in)

## UPD7508C
designator U?
CMOS 4-Bit Single-Chip Microcomputer; Published: 8-Jun-2000; LatestRevisionDate: 17-Jul-2002; LatestRevisionNote: Re-released for DXP Platform.; DatasheetVersion: 1984; PackageVersion: 1984; PackageReference: PDIP40; Publisher: Altium Limited; PackageDescription: DIP; 40 Leads; Row Spacing 15.24 mm; Pitch 2.54 mm; ComponentLink1Description: Manufacturer Link; ComponentLink1URL: http://www.necel.com/
footprint PDIP40 (DIP; 40 Leads; Row Spacing 15.24 mm; Pitch 2.54 mm)
pins: 1 X2 (in), 2 P20/~{PSTB} (out), 3 P21/PTOUT (out), 4 P22 (out), 5 P23 (out), 6 P10 (io), 7 P11 (io), 8 P12 (io), 9 P13 (io), 10 P30 (out), 11 P31 (out), 12 P32 (out), 13 P33 (out), 14 P70 (io), 15 P71 (io), 16 P72 (io), 17 P73 (io), 18 RST (in), 19 CL1 (in), 20 VCC (power), 21 CL2 (in), 22 INT1 (in), 23 P00/INT0 (in), 24 P01/~{SCK} (in), 25 P02/SO (io), 26 P03/SI (io), 27 P60 (io), 28 P61 (io), 29 P62 (io), 30 P63 (io), 31 P50 (io), 32 P51 (io), 33 P52 (io), 34 P53 (io), 35 P40 (io), 36 P41 (io), 37 P42 (io), 38 P43 (io), 39 GND (power), 40 X1 (in)

## UPD7508CU
designator U?
CMOS 4-Bit Single-Chip Microcomputer; Published: 8-Jun-2000; LatestRevisionDate: 17-Jul-2002; LatestRevisionNote: Re-released for DXP Platform.; DatasheetVersion: 1984; PackageVersion: 1984; PackageReference: PSDIP40; Publisher: Altium Limited; PackageDescription: DIP; 40 Leads; Row Spacing 15.24 mm; Pitch 1.778 mm; ComponentLink1Description: Manufacturer Link; ComponentLink1URL: http://www.necel.com/
footprint PSDIP40 (DIP; 40 Leads; Row Spacing 15.24 mm; Pitch 1.778 mm)
pins: 1 X2 (in), 2 P20/~{PSTB} (out), 3 P21/PTOUT (out), 4 P22 (out), 5 P23 (out), 6 P10 (io), 7 P11 (io), 8 P12 (io), 9 P13 (io), 10 P30 (out), 11 P31 (out), 12 P32 (out), 13 P33 (out), 14 P70 (io), 15 P71 (io), 16 P72 (io), 17 P73 (io), 18 RST (in), 19 CL1 (in), 20 VCC (power), 21 CL2 (in), 22 INT1 (in), 23 P00/INT0 (in), 24 P01/~{SCK} (in), 25 P02/SO (io), 26 P03/SI (io), 27 P60 (io), 28 P61 (io), 29 P62 (io), 30 P63 (io), 31 P50 (io), 32 P51 (io), 33 P52 (io), 34 P53 (io), 35 P40 (io), 36 P41 (io), 37 P42 (io), 38 P43 (io), 39 GND (power), 40 X1 (in)

## UPD7508G
designator U?
CMOS 4-Bit Single-Chip Microcomputer; Note: Pins 1, 4, 6, 8, 13, 14, 27, 29, 35, 40 and 45 are "No Connection"  pins and not drawn.; Published: 8-Jun-2000; LatestRevisionDate: 13-Apr-2006; LatestRevisionNote: IPC-7351 Footprint Added.; DatasheetVersion: 1984; PackageReference: PMF52; Publisher: Altium Limited; PackageDescription: 52-Pin Quad Flat Pack 1 mm Pitch; ComponentLink1Description: Manufacturer Link; ComponentLink1URL: http://www.necel.com/
footprint PMF52_N (QFP, 52-Leads, Body 14x14mm, Pitch 1mm, IPC Medium Density)
footprint PMF52_L (QFP, 52-Leads, Body 14x14mm, Pitch 1mm, IPC High Density)
footprint PMF52_M (QFP, 52-Leads, Body 14x14mm, Pitch 1mm, IPC Low Density)
pins: 2 P73 (io), 3 RST (in), 5 CL1 (in), 7 VCC (power), 9 CL2 (in), 10 INT1 (in), 11 P00/INT0 (io), 12 P01/~{SCK} (io), 15 P02/SO (io), 16 P03/SI (io), 17 P60 (io), 18 P61 (io), 19 P62 (io), 20 P63 (io), 21 P50 (io), 22 P51 (io), 23 P52 (io), 24 P53 (io), 25 P40 (io), 26 P41 (io), 28 P42 (io), 30 P43 (io), 31 GND (power), 32 X1 (in), 33 VCC (power), 34 X2 (in), 36 P20/~{PSTB} (out), 37 P21/PTOUT (out), 38 P22 (out), 39 P23 (out), 41 P10 (io), 42 P11 (io), 43 P12 (io), 44 P13 (io), 46 P30 (out), 47 P31 (out), 48 P32 (out), 49 P33 (out), 50 P70 (io), 51 P71 (io), 52 P72 (io)

## UPD7508HC
designator U?
High Speed CMOS 4-Bit Single-Chip Microcomputer; Published: 8-Jun-2000; LatestRevisionDate: 17-Jul-2002; LatestRevisionNote: Re-released for DXP Platform.; DatasheetVersion: 1984; PackageVersion: 1984; PackageReference: PDIP40; Publisher: Altium Limited; PackageDescription: DIP; 40 Leads; Row Spacing 15.24 mm; Pitch 2.54 mm; ComponentLink1Description: Manufacturer Link; ComponentLink1URL: http://www.necel.com/
footprint PDIP40 (DIP; 40 Leads; Row Spacing 15.24 mm; Pitch 2.54 mm)
pins: 1 CLKO (out), 2 P20/~{PSTB} (out), 3 P21/PTOUT (out), 4 P22 (out), 5 P23 (out), 6 P10 (io), 7 P11 (io), 8 P12 (io), 9 P13 (io), 10 P30 (out), 11 P31 (out), 12 P32 (out), 13 P33 (out), 14 P70 (io), 15 P71 (io), 16 P72 (io), 17 P73 (io), 18 RST (in), 19 X1 (in), 20 VCC (power), 21 X2 (in), 22 INT1 (in), 23 P00/INT0 (in), 24 P01/~{SCK} (in), 25 P02/SO (io), 26 P03/SI (io), 27 P60 (io), 28 P61 (io), 29 P62 (io), 30 P63 (io), 31 P50 (io), 32 P51 (io), 33 P52 (io), 34 P53 (io), 35 P40 (io), 36 P41 (io), 37 P42 (io), 38 P43 (io), 39 GND (power), 40 EVENT (in)

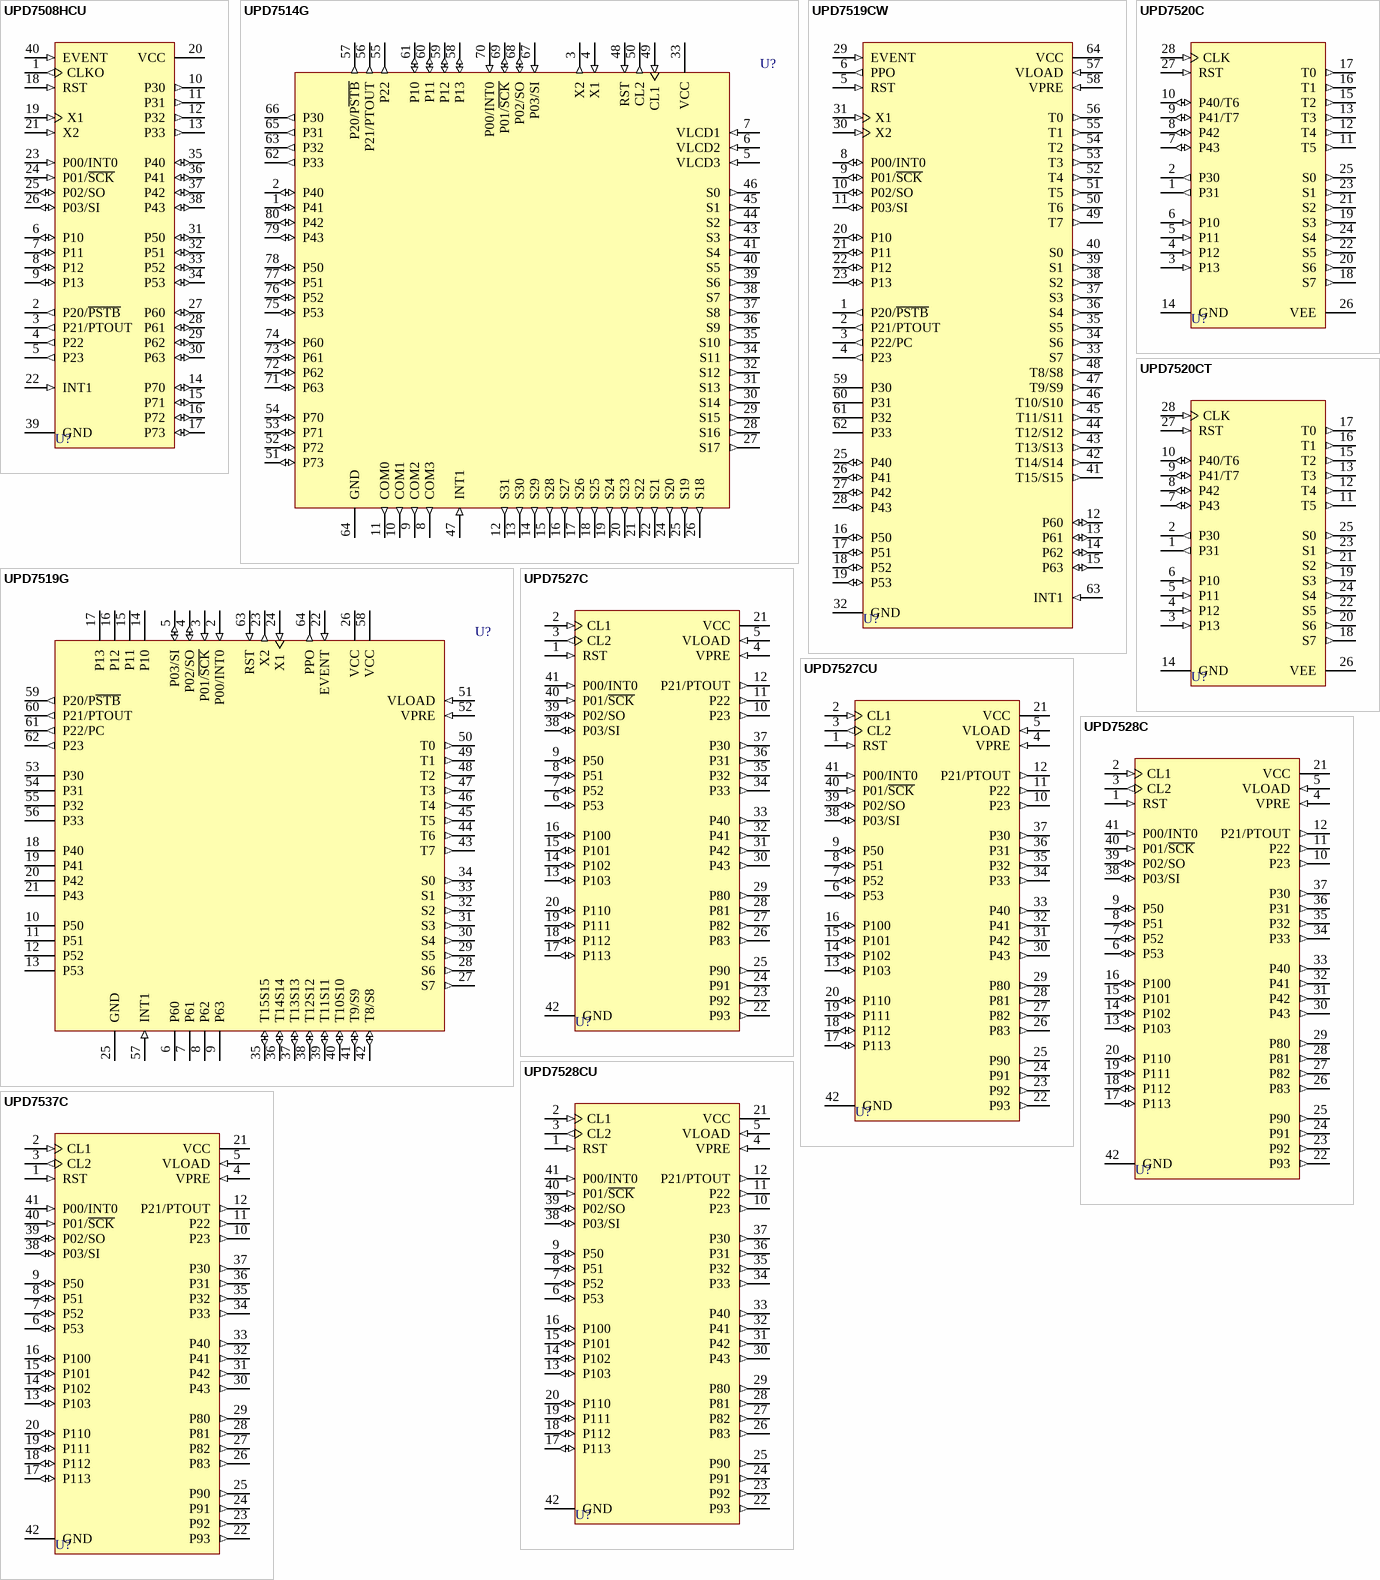
[diagram p2: symbols UPD7508HCU to UPD7537C]

## UPD7508HCU
designator U?
High Speed CMOS 4-Bit Single-Chip Microcomputer; Published: 8-Jun-2000; LatestRevisionDate: 17-Jul-2002; LatestRevisionNote: Re-released for DXP Platform.; DatasheetVersion: 1984; PackageVersion: 1984; PackageReference: PSDIP40; Publisher: Altium Limited; PackageDescription: DIP; 40 Leads; Row Spacing 15.24 mm; Pitch 1.778 mm; ComponentLink1Description: Manufacturer Link; ComponentLink1URL: http://www.necel.com/
footprint PSDIP40 (DIP; 40 Leads; Row Spacing 15.24 mm; Pitch 1.778 mm)
pins: 1 CLKO (out), 2 P20/~{PSTB} (out), 3 P21/PTOUT (out), 4 P22 (out), 5 P23 (out), 6 P10 (io), 7 P11 (io), 8 P12 (io), 9 P13 (io), 10 P30 (out), 11 P31 (out), 12 P32 (out), 13 P33 (out), 14 P70 (io), 15 P71 (io), 16 P72 (io), 17 P73 (io), 18 RST (in), 19 X1 (in), 20 VCC (power), 21 X2 (in), 22 INT1 (in), 23 P00/INT0 (in), 24 P01/~{SCK} (in), 25 P02/SO (io), 26 P03/SI (io), 27 P60 (io), 28 P61 (io), 29 P62 (io), 30 P63 (io), 31 P50 (io), 32 P51 (io), 33 P52 (io), 34 P53 (io), 35 P40 (io), 36 P41 (io), 37 P42 (io), 38 P43 (io), 39 GND (power), 40 EVENT (in)

## UPD7514G
designator U?
CMOS 4-Bit Single-Chip Microcomputer with LCD Controller/Driver; Note: Pins 23 and 24 are "No Connection"  pins and not drawn.; Published: 8-Jun-2000; LatestRevisionDate: 13-Apr-2006; LatestRevisionNote: IPC-7351 Footprint Added.; DatasheetVersion: 1984; PackageVersion: 1983/1984; PackageReference: PMF80; Publisher: Altium Limited; PackageDescription: 80-Pin Quad Flat Pack Rectangular 0.8 mm Pitch; ComponentLink1Description: Manufacturer Link; ComponentLink1URL: http://www.necel.com/
footprint PMF80_N (QFP, 80-Leads, Body 20x14mm, Pitch 0.8mm, IPC Medium Density)
footprint PMF80_L (QFP, 80-Leads, Body 20x14mm, Pitch 0.8mm, IPC High Density)
footprint PMF80_M (QFP, 80-Leads, Body 20x14mm, Pitch 0.8mm, IPC Low Density)
pins: 1 P41 (io), 2 P40 (io), 3 X2 (out), 4 X1 (in), 5 VLCD3 (in), 6 VLCD2 (in), 7 VLCD1 (in), 8 COM3 (out), 9 COM2 (out), 10 COM1 (out), 11 COM0 (out), 12 S31 (out), 13 S30 (out), 14 S29 (out), 15 S28 (out), 16 S27 (out), 17 S26 (out), 18 S25 (out), 19 S24 (out), 20 S23 (out), 21 S22 (out), 22 S21 (out), 24 S20 (out), 25 S19 (out), 26 S18 (out), 27 S17 (out), 28 S16 (out), 29 S15 (out), 30 S14 (out), 31 S13 (out), 32 S12 (out), 33 VCC (power), 34 S11 (out), 35 S10 (out), 36 S9 (out), 37 S8 (out), 38 S7 (out), 39 S6 (out), 40 S5 (out), 41 S4 (out), 43 S3 (out), 44 S2 (out), 45 S1 (out), 46 S0 (out), 47 INT1 (in), 48 RST (in), 49 CL1 (in), 50 CL2 (out), 51 P73 (io), 52 P72 (io), 53 P71 (io), 54 P70 (io), 55 P22 (out), 56 P21/PTOUT (out), 57 P20/P~{STB} (out), 58 P13 (io), 59 P12 (io), 60 P11 (io), 61 P10 (io), 62 P33 (out), 63 P32 (out), 64 GND (power), 65 P31 (out), 66 P30 (out), 67 P03/SI (in), 68 P02/SO (io), 69 P01/~{SCK} (io), 70 P00/INT0 (in), 71 P63 (io), 72 P62 (io), 73 P61 (io), 74 P60 (io), 75 P53 (io), 76 P52 (io), 77 P51 (io), 78 P50 (io), 79 P43 (io), 80 P42 (io)

## UPD7519CW
designator U?
CMOS 4-Bit Single-Chip Microcomputer with Vacuum Fluorescent Display Controller/Driver; Note: Pins 7 and 24 are "No Connection"  pins and not drawn.; Published: 8-Jun-2000; LatestRevisionDate: 17-Jul-2002; LatestRevisionNote: Re-released for DXP Platform.; DatasheetVersion: 1984; PackageVersion: 1984; PackageReference: PSDIP64; Publisher: Altium Limited; PackageDescription: DIP; 64 Leads; Row Spacing 19.05 mm; Pitch 1.778 mm; ComponentLink1Description: Manufacturer Link; ComponentLink1URL: http://www.necel.com/
footprint PSDIP64 (DIP; 64 Leads; Row Spacing 19.05 mm; Pitch 1.778 mm)
pins: 1 P20/~{PSTB} (out), 2 P21/PTOUT (out), 3 P22/PC (out), 4 P23 (out), 5 RST (in), 6 PPO (out), 8 P00/INT0 (io), 9 P01/~{SCK} (io), 10 P02/SO (io), 11 P03/SI (io), 12 P60 (io), 13 P61 (io), 14 P62 (io), 15 P63 (io), 16 P50 (io), 17 P51 (io), 18 P52 (io), 19 P53 (io), 20 P10 (io), 21 P11 (io), 22 P12 (io), 23 P13 (io), 25 P40 (io), 26 P41 (io), 27 P42 (io), 28 P43 (io), 29 EVENT (in), 30 X2 (in), 31 X1 (in), 32 GND (power), 33 S7 (out), 34 S6 (out), 35 S5 (out), 36 S4 (out), 37 S3 (out), 38 S2 (out), 39 S1 (out), 40 S0 (out), 41 T15/S15 (out), 42 T14/S14 (out), 43 T13/S13 (out), 44 T12/S12 (out), 45 T11/S11 (out), 46 T10/S10 (out), 47 T9/S9 (out), 48 T8/S8 (out), 49 T7 (out), 50 T6 (out), 51 T5 (out), 52 T4 (out), 53 T3 (out), 54 T2 (out), 55 T1 (out), 56 T0 (out), 57 VLOAD (in), 58 VPRE (in), 59 P30 (hiz), 60 P31 (hiz), 61 P32 (hiz), 62 P33 (hiz), 63 INT1 (in), 64 VCC (power)

## UPD7519G
designator U?
CMOS 4-Bit Single-Chip Microcomputer with Vacuum Fluorescent Display Controller/Driver; Note: Pin 1 is a "No Connection"  pin and not drawn.; Published: 8-Jun-2000; LatestRevisionDate: 17-Jul-2002; LatestRevisionNote: Re-released for DXP Platform.; DatasheetVersion: 1984; PackageVersion: 1984; PackageReference: PQUIL64; Publisher: Altium Limited; PackageDescription: QUIP; 64 Leads, in two Staggered Rows, each of 2.54 mm pitch; ComponentLink1Description: Manufacturer Link; ComponentLink1URL: http://www.necel.com/
footprint PQUIL64 (QUIP; 64 Leads, in two Staggered Rows, each of 19.05 mm pitch)
pins: 2 P00/INT0 (in), 3 P01/~{SCK} (in), 4 P02/SO (io), 5 P03/SI (io), 6 P60 (hiz), 7 P61 (hiz), 8 P62 (hiz), 9 P63 (hiz), 10 P50 (hiz), 11 P51 (hiz), 12 P52 (hiz), 13 P53 (hiz), 14 P10 (hiz), 15 P11 (hiz), 16 P12 (hiz), 17 P13 (hiz), 18 P40 (hiz), 19 P41 (hiz), 20 P42 (hiz), 21 P43 (hiz), 22 EVENT (in), 23 X2 (out), 24 X1 (in), 25 GND (power), 26 VCC (power), 27 S7 (out), 28 S6 (out), 29 S5 (out), 30 S4 (out), 31 S3 (out), 32 S2 (out), 33 S1 (out), 34 S0 (out), 35 T15S15 (io), 36 T14S14 (io), 37 T13S13 (io), 38 T12S12 (io), 39 T11S11 (io), 40 T10S10 (io), 41 T9/S9 (io), 42 T8/S8 (io), 43 T7 (out), 44 T6 (out), 45 T5 (out), 46 T4 (out), 47 T3 (out), 48 T2 (out), 49 T1 (out), 50 T0 (out), 51 VLOAD (in), 52 VPRE (in), 53 P30 (hiz), 54 P31 (hiz), 55 P32 (hiz), 56 P33 (hiz), 57 INT1 (in), 58 VCC (power), 59 P20/P~{STB} (out), 60 P21/PTOUT (out), 61 P22/PC (out), 62 P23 (out), 63 RST (in), 64 PPO (out)

## UPD7520C
designator U?
4-Bit Single-Chip Microcomputer with LED Display Controller/Driver; Published: 8-Jun-2000; LatestRevisionDate: 17-Jul-2002; LatestRevisionNote: Re-released for DXP Platform.; DatasheetVersion: 1984; PackageVersion: 1984; PackageReference: PDIP28D; Publisher: Altium Limited; PackageDescription: DIP; 28 Leads; Row Spacing 15.24 mm; Pitch 2.54 mm; ComponentLink1Description: Manufacturer Link; ComponentLink1URL: http://www.necel.com/
footprint PDIP28D (DIP; 28 Leads; Row Spacing 15.24 mm; Pitch 2.54 mm)
pins: 1 P31 (out), 2 P30 (out), 3 P13 (in), 4 P12 (in), 5 P11 (in), 6 P10 (in), 7 P43 (io), 8 P42 (io), 9 P41/T7 (io), 10 P40/T6 (io), 11 T5 (out), 12 T4 (out), 13 T3 (out), 14 GND (power), 15 T2 (out), 16 T1 (out), 17 T0 (out), 18 S7 (out), 19 S3 (out), 20 S6 (out), 21 S2 (out), 22 S5 (out), 23 S1 (out), 24 S4 (out), 25 S0 (out), 26 VEE (power), 27 RST (in), 28 CLK (in)

## UPD7520CT
designator U?
4-Bit Single-Chip Microcomputer with LED Display Controller/Driver; Published: 8-Jun-2000; LatestRevisionDate: 17-Jul-2002; LatestRevisionNote: Re-released for DXP Platform.; DatasheetVersion: 1984; PackageVersion: 1984; PackageReference: PSDIP28; Publisher: Altium Limited; PackageDescription: DIP; 28 Leads; Row Spacing 15.24 mm; Pitch 1.778 mm; ComponentLink1Description: Manufacturer Link; ComponentLink1URL: http://www.necel.com/
footprint PSDIP28 (DIP; 28 Leads; Row Spacing 15.24 mm; Pitch 1.778 mm)
pins: 1 P31 (out), 2 P30 (out), 3 P13 (in), 4 P12 (in), 5 P11 (in), 6 P10 (in), 7 P43 (io), 8 P42 (io), 9 P41/T7 (io), 10 P40/T6 (io), 11 T5 (out), 12 T4 (out), 13 T3 (out), 14 GND (power), 15 T2 (out), 16 T1 (out), 17 T0 (out), 18 S7 (out), 19 S3 (out), 20 S6 (out), 21 S2 (out), 22 S5 (out), 23 S1 (out), 24 S4 (out), 25 S0 (out), 26 VEE (power), 27 RST (in), 28 CLK (in)

## UPD7527C
designator U?
CMOS 4-Bit Single-Chip Microcomputer with Vacuum Fluorescent Display Drive Capability; Published: 8-Jun-2000; LatestRevisionDate: 17-Jul-2002; LatestRevisionNote: Re-released for DXP Platform.; DatasheetVersion: 1984; PackageVersion: 1984; PackageReference: PDIP42; Publisher: Altium Limited; PackageDescription: DIP; 42 Leads; Row Spacing 15.24 mm; Pitch 2.54 mm; ComponentLink1Description: Manufacturer Link; ComponentLink1URL: http://www.necel.com/
footprint PDIP42 (DIP; 42 Leads; Row Spacing 15.24 mm; Pitch 2.54 mm)
pins: 1 RST (in), 2 CL1 (in), 3 CL2 (out), 4 VPRE (in), 5 VLOAD (in), 6 P53 (io), 7 P52 (io), 8 P51 (io), 9 P50 (io), 10 P23 (out), 11 P22 (out), 12 P21/PTOUT (out), 13 P103 (io), 14 P102 (io), 15 P101 (io), 16 P100 (io), 17 P113 (io), 18 P112 (io), 19 P111 (io), 20 P110 (io), 21 VCC (power), 22 P93 (out), 23 P92 (out), 24 P91 (out), 25 P90 (out), 26 P83 (out), 27 P82 (out), 28 P81 (out), 29 P80 (out), 30 P43 (out), 31 P42 (out), 32 P41 (out), 33 P40 (out), 34 P33 (out), 35 P32 (out), 36 P31 (out), 37 P30 (out), 38 P03/SI (io), 39 P02/SO (io), 40 P01/~{SCK} (in), 41 P00/INT0 (in), 42 GND (power)

## UPD7527CU
designator U?
CMOS 4-Bit Single-Chip Microcomputer with Vacuum Fluorescent Display Drive Capability; Published: 8-Jun-2000; LatestRevisionDate: 17-Jul-2002; LatestRevisionNote: Re-released for DXP Platform.; DatasheetVersion: 1984; PackageVersion: 1984; PackageReference: PSDIP42; Publisher: Altium Limited; PackageDescription: DIP; 42 Leads; Row Spacing 15.24 mm; Pitch 1.778 mm; ComponentLink1Description: Manufacturer Link; ComponentLink1URL: http://www.necel.com/
footprint PSDIP42 (DIP; 42 Leads; Row Spacing 15.24 mm; Pitch 1.778 mm)
pins: 1 RST (in), 2 CL1 (in), 3 CL2 (out), 4 VPRE (in), 5 VLOAD (in), 6 P53 (io), 7 P52 (io), 8 P51 (io), 9 P50 (io), 10 P23 (out), 11 P22 (out), 12 P21/PTOUT (out), 13 P103 (io), 14 P102 (io), 15 P101 (io), 16 P100 (io), 17 P113 (io), 18 P112 (io), 19 P111 (io), 20 P110 (io), 21 VCC (power), 22 P93 (out), 23 P92 (out), 24 P91 (out), 25 P90 (out), 26 P83 (out), 27 P82 (out), 28 P81 (out), 29 P80 (out), 30 P43 (out), 31 P42 (out), 32 P41 (out), 33 P40 (out), 34 P33 (out), 35 P32 (out), 36 P31 (out), 37 P30 (out), 38 P03/SI (io), 39 P02/SO (io), 40 P01/~{SCK} (in), 41 P00/INT0 (in), 42 GND (power)

## UPD7528C
designator U?
CMOS 4-Bit Single-Chip Microcomputer with Vacuum Fluorescent Display Drive Capability; Published: 8-Jun-2000; LatestRevisionDate: 17-Jul-2002; LatestRevisionNote: Re-released for DXP Platform.; DatasheetVersion: 1984; PackageVersion: 1984; PackageReference: PDIP42; Publisher: Altium Limited; PackageDescription: DIP; 42 Leads; Row Spacing 15.24 mm; Pitch 2.54 mm; ComponentLink1Description: Manufacturer Link; ComponentLink1URL: http://www.necel.com/
footprint PDIP42 (DIP; 42 Leads; Row Spacing 15.24 mm; Pitch 2.54 mm)
pins: 1 RST (in), 2 CL1 (in), 3 CL2 (out), 4 VPRE (in), 5 VLOAD (in), 6 P53 (io), 7 P52 (io), 8 P51 (io), 9 P50 (io), 10 P23 (out), 11 P22 (out), 12 P21/PTOUT (out), 13 P103 (io), 14 P102 (io), 15 P101 (io), 16 P100 (io), 17 P113 (io), 18 P112 (io), 19 P111 (io), 20 P110 (io), 21 VCC (power), 22 P93 (out), 23 P92 (out), 24 P91 (out), 25 P90 (out), 26 P83 (out), 27 P82 (out), 28 P81 (out), 29 P80 (out), 30 P43 (out), 31 P42 (out), 32 P41 (out), 33 P40 (out), 34 P33 (out), 35 P32 (out), 36 P31 (out), 37 P30 (out), 38 P03/SI (io), 39 P02/SO (io), 40 P01/~{SCK} (in), 41 P00/INT0 (in), 42 GND (power)

## UPD7528CU
designator U?
CMOS 4-Bit Single-Chip Microcomputer with Vacuum Fluorescent Display Drive Capability; Published: 8-Jun-2000; LatestRevisionDate: 17-Jul-2002; LatestRevisionNote: Re-released for DXP Platform.; DatasheetVersion: 1984; PackageVersion: 1984; PackageReference: PSDIP42; Publisher: Altium Limited; PackageDescription: DIP; 42 Leads; Row Spacing 15.24 mm; Pitch 1.778 mm; ComponentLink1Description: Manufacturer Link; ComponentLink1URL: http://www.necel.com/
footprint PSDIP42 (DIP; 42 Leads; Row Spacing 15.24 mm; Pitch 1.778 mm)
pins: 1 RST (in), 2 CL1 (in), 3 CL2 (out), 4 VPRE (in), 5 VLOAD (in), 6 P53 (io), 7 P52 (io), 8 P51 (io), 9 P50 (io), 10 P23 (out), 11 P22 (out), 12 P21/PTOUT (out), 13 P103 (io), 14 P102 (io), 15 P101 (io), 16 P100 (io), 17 P113 (io), 18 P112 (io), 19 P111 (io), 20 P110 (io), 21 VCC (power), 22 P93 (out), 23 P92 (out), 24 P91 (out), 25 P90 (out), 26 P83 (out), 27 P82 (out), 28 P81 (out), 29 P80 (out), 30 P43 (out), 31 P42 (out), 32 P41 (out), 33 P40 (out), 34 P33 (out), 35 P32 (out), 36 P31 (out), 37 P30 (out), 38 P03/SI (io), 39 P02/SO (io), 40 P01/~{SCK} (in), 41 P00/INT0 (in), 42 GND (power)

## UPD7537C
designator U?
CMOS 4-Bit Single-Chip Microcomputer with Vacuum Fluorescent Display Drive Capability; Published: 8-Jun-2000; LatestRevisionDate: 17-Jul-2002; LatestRevisionNote: Re-released for DXP Platform.; DatasheetVersion: 1984; PackageVersion: 1984; PackageReference: PDIP42; Publisher: Altium Limited; PackageDescription: DIP; 42 Leads; Row Spacing 15.24 mm; Pitch 2.54 mm; ComponentLink1Description: Manufacturer Link; ComponentLink1URL: http://www.necel.com/
footprint PDIP42 (DIP; 42 Leads; Row Spacing 15.24 mm; Pitch 2.54 mm)
pins: 1 RST (in), 2 CL1 (in), 3 CL2 (out), 4 VPRE (in), 5 VLOAD (in), 6 P53 (io), 7 P52 (io), 8 P51 (io), 9 P50 (io), 10 P23 (out), 11 P22 (out), 12 P21/PTOUT (out), 13 P103 (io), 14 P102 (io), 15 P101 (io), 16 P100 (io), 17 P113 (io), 18 P112 (io), 19 P111 (io), 20 P110 (io), 21 VCC (power), 22 P93 (out), 23 P92 (out), 24 P91 (out), 25 P90 (out), 26 P83 (out), 27 P82 (out), 28 P81 (out), 29 P80 (out), 30 P43 (out), 31 P42 (out), 32 P41 (out), 33 P40 (out), 34 P33 (out), 35 P32 (out), 36 P31 (out), 37 P30 (out), 38 P03/SI (io), 39 P02/SO (io), 40 P01/~{SCK} (in), 41 P00/INT0 (in), 42 GND (power)

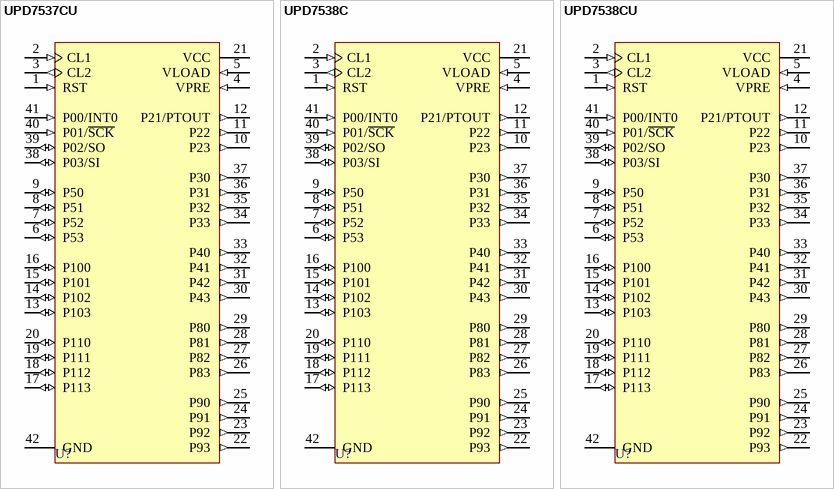
[diagram p3: symbols UPD7537CU to UPD7538CU]

## UPD7537CU
designator U?
CMOS 4-Bit Single-Chip Microcomputer with Vacuum Fluorescent Display Drive Capability; Published: 8-Jun-2000; LatestRevisionDate: 17-Jul-2002; LatestRevisionNote: Re-released for DXP Platform.; DatasheetVersion: 1984; PackageVersion: 1984; PackageReference: PSDIP42; Publisher: Altium Limited; PackageDescription: DIP; 42 Leads; Row Spacing 15.24 mm; Pitch 1.778 mm; ComponentLink1Description: Manufacturer Link; ComponentLink1URL: http://www.necel.com/
footprint PSDIP42 (DIP; 42 Leads; Row Spacing 15.24 mm; Pitch 1.778 mm)
pins: 1 RST (in), 2 CL1 (in), 3 CL2 (out), 4 VPRE (in), 5 VLOAD (in), 6 P53 (io), 7 P52 (io), 8 P51 (io), 9 P50 (io), 10 P23 (out), 11 P22 (out), 12 P21/PTOUT (out), 13 P103 (io), 14 P102 (io), 15 P101 (io), 16 P100 (io), 17 P113 (io), 18 P112 (io), 19 P111 (io), 20 P110 (io), 21 VCC (power), 22 P93 (out), 23 P92 (out), 24 P91 (out), 25 P90 (out), 26 P83 (out), 27 P82 (out), 28 P81 (out), 29 P80 (out), 30 P43 (out), 31 P42 (out), 32 P41 (out), 33 P40 (out), 34 P33 (out), 35 P32 (out), 36 P31 (out), 37 P30 (out), 38 P03/SI (io), 39 P02/SO (io), 40 P01/~{SCK} (in), 41 P00/INT0 (in), 42 GND (power)

## UPD7538C
designator U?
CMOS 4-Bit Single-Chip Microcomputer with Vacuum Fluorescent Display Drive Capability; Published: 8-Jun-2000; LatestRevisionDate: 17-Jul-2002; LatestRevisionNote: Re-released for DXP Platform.; DatasheetVersion: 1984; PackageVersion: 1984; PackageReference: PDIP42; Publisher: Altium Limited; PackageDescription: DIP; 42 Leads; Row Spacing 15.24 mm; Pitch 2.54 mm; ComponentLink1Description: Manufacturer Link; ComponentLink1URL: http://www.necel.com/
footprint PDIP42 (DIP; 42 Leads; Row Spacing 15.24 mm; Pitch 2.54 mm)
pins: 1 RST (in), 2 CL1 (in), 3 CL2 (out), 4 VPRE (in), 5 VLOAD (in), 6 P53 (io), 7 P52 (io), 8 P51 (io), 9 P50 (io), 10 P23 (out), 11 P22 (out), 12 P21/PTOUT (out), 13 P103 (io), 14 P102 (io), 15 P101 (io), 16 P100 (io), 17 P113 (io), 18 P112 (io), 19 P111 (io), 20 P110 (io), 21 VCC (power), 22 P93 (out), 23 P92 (out), 24 P91 (out), 25 P90 (out), 26 P83 (out), 27 P82 (out), 28 P81 (out), 29 P80 (out), 30 P43 (out), 31 P42 (out), 32 P41 (out), 33 P40 (out), 34 P33 (out), 35 P32 (out), 36 P31 (out), 37 P30 (out), 38 P03/SI (io), 39 P02/SO (io), 40 P01/~{SCK} (in), 41 P00/INT0 (in), 42 GND (power)

## UPD7538CU
designator U?
CMOS 4-Bit Single-Chip Microcomputer with Vacuum Fluorescent Display Drive Capability; Published: 8-Jun-2000; LatestRevisionDate: 17-Jul-2002; LatestRevisionNote: Re-released for DXP Platform.; DatasheetVersion: 1984; PackageVersion: 1984; PackageReference: PSDIP42; Publisher: Altium Limited; PackageDescription: DIP; 42 Leads; Row Spacing 15.24 mm; Pitch 1.778 mm; ComponentLink1Description: Manufacturer Link; ComponentLink1URL: http://www.necel.com/
footprint PSDIP42 (DIP; 42 Leads; Row Spacing 15.24 mm; Pitch 1.778 mm)
pins: 1 RST (in), 2 CL1 (in), 3 CL2 (out), 4 VPRE (in), 5 VLOAD (in), 6 P53 (io), 7 P52 (io), 8 P51 (io), 9 P50 (io), 10 P23 (out), 11 P22 (out), 12 P21/PTOUT (out), 13 P103 (io), 14 P102 (io), 15 P101 (io), 16 P100 (io), 17 P113 (io), 18 P112 (io), 19 P111 (io), 20 P110 (io), 21 VCC (power), 22 P93 (out), 23 P92 (out), 24 P91 (out), 25 P90 (out), 26 P83 (out), 27 P82 (out), 28 P81 (out), 29 P80 (out), 30 P43 (out), 31 P42 (out), 32 P41 (out), 33 P40 (out), 34 P33 (out), 35 P32 (out), 36 P31 (out), 37 P30 (out), 38 P03/SI (io), 39 P02/SO (io), 40 P01/~{SCK} (in), 41 P00/INT0 (in), 42 GND (power)